# Altium footprint library ae3-wlcsp208.PcbLib: 1 footprints
Each footprint in its own frame and in the unit in brackets; x right, y up, seen from the top. Pads: shape width x height; smd on the part's side, far side on the other; paste and mask are expansions set on the pad; w line width, h text height; cw(c..) or ccw(c..) is an arc to the next point about the centre after c.
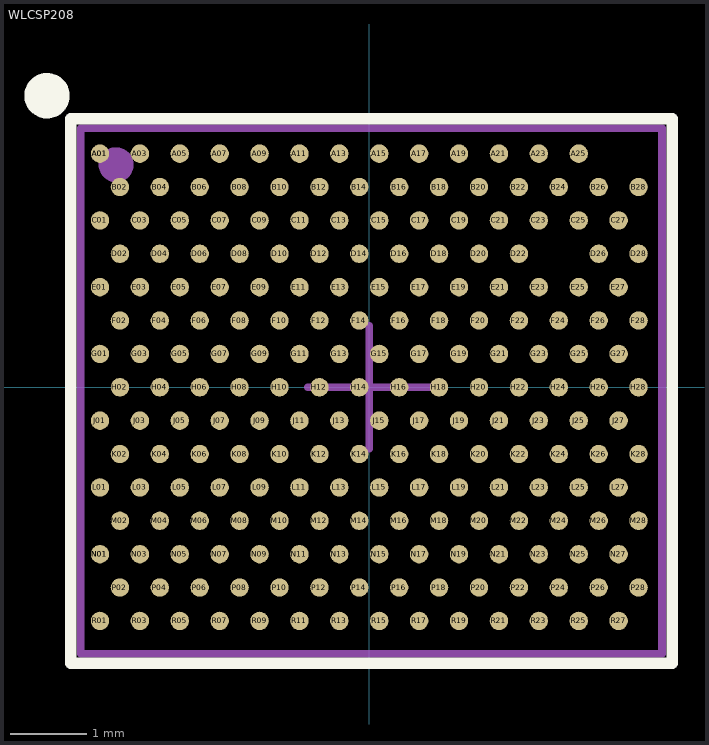
[diagram p0: the footprint, top view; thin cyan lines are the x and y axes]

## WLCSP208 [mm]
pads (210):
  round 0.24 smd mask+0.05: A01(-3.51,3.045) A01(-3.51,3.045) A03(-2.99,3.045) A05(-2.47,3.045) A07(-1.95,3.045) A09(-1.43,3.045) A11(-0.91,3.045) A13(-0.39,3.045) A15(0.13,3.045) A17(0.65,3.045) A19(1.17,3.045) A21(1.69,3.045) A23(2.21,3.045) A25(2.73,3.045) B02(-3.25,2.61) B04(-2.73,2.61) B06(-2.21,2.61) B08(-1.69,2.61) B10(-1.17,2.61) B12(-0.65,2.61) B14(-0.13,2.61) B16(0.39,2.61) B18(0.91,2.61) B20(1.43,2.61) B22(1.95,2.61) B24(2.47,2.61) B26(2.99,2.61) B28(3.51,2.61) C01(-3.51,2.175) C03(-2.99,2.175) C05(-2.47,2.175) C07(-1.95,2.175) C09(-1.43,2.175) C11(-0.91,2.175) C13(-0.39,2.175) C15(0.13,2.175) C17(0.65,2.175) C19(1.17,2.175) C21(1.69,2.175) C23(2.21,2.175) C25(2.73,2.175) C27(3.25,2.175) D02(-3.25,1.74) D04(-2.73,1.74) D06(-2.21,1.74) D08(-1.69,1.74) D10(-1.17,1.74) D12(-0.65,1.74) D14(-0.13,1.74) D16(0.39,1.74) D18(0.91,1.74) D20(1.43,1.74) D22(1.95,1.74) D26(2.99,1.74) D28(3.51,1.74) E01(-3.51,1.305) E03(-2.99,1.305) E05(-2.47,1.305) E07(-1.95,1.305) E09(-1.43,1.305) E11(-0.91,1.305) E13(-0.39,1.305) E15(0.13,1.305) E17(0.65,1.305) E19(1.17,1.305) E21(1.69,1.305) E23(2.21,1.305) E25(2.73,1.305) E27(3.25,1.305) F02(-3.25,0.87) F04(-2.73,0.87) F06(-2.21,0.87) F08(-1.69,0.87) F10(-1.17,0.87) F12(-0.65,0.87) F14(-0.13,0.87) F16(0.39,0.87) F18(0.91,0.87) F20(1.43,0.87) F22(1.95,0.87) F24(2.47,0.87) F26(2.99,0.87) F28(3.51,0.87) G01(-3.51,0.435) G03(-2.99,0.435) G05(-2.47,0.435) G07(-1.95,0.435) G09(-1.43,0.435) G11(-0.91,0.435) G13(-0.39,0.435) G15(0.13,0.435) G17(0.65,0.435) G19(1.17,0.435) G21(1.69,0.435) G23(2.21,0.435) G25(2.73,0.435) G27(3.25,0.435) H02(-3.25,0) H04(-2.73,0) H06(-2.21,0) H08(-1.69,0) H10(-1.17,0) H12(-0.65,0) H14(-0.13,0) H16(0.39,0) H18(0.91,0) H20(1.43,0) H22(1.95,0) H24(2.47,0) H26(2.99,0) H28(3.51,0) J01(-3.51,-0.435) J03(-2.99,-0.435) J05(-2.47,-0.435) J07(-1.95,-0.435) J09(-1.43,-0.435) J11(-0.91,-0.435) J13(-0.39,-0.435) J15(0.13,-0.435) J17(0.65,-0.435) J19(1.17,-0.435) J21(1.69,-0.435) J23(2.21,-0.435) J25(2.73,-0.435) J27(3.25,-0.435) K02(-3.25,-0.87) K04(-2.73,-0.87) K06(-2.21,-0.87) K08(-1.69,-0.87) K10(-1.17,-0.87) K12(-0.65,-0.87) K14(-0.13,-0.87) K16(0.39,-0.87) K18(0.91,-0.87) K20(1.43,-0.87) K22(1.95,-0.87) K24(2.47,-0.87) K26(2.99,-0.87) K28(3.51,-0.87) L01(-3.51,-1.305) L03(-2.99,-1.305) L05(-2.47,-1.305) L07(-1.95,-1.305) L09(-1.43,-1.305) L11(-0.91,-1.305) L13(-0.39,-1.305) L15(0.13,-1.305) L17(0.65,-1.305) L19(1.17,-1.305) L21(1.69,-1.305) L23(2.21,-1.305) L25(2.73,-1.305) L27(3.25,-1.305) M02(-3.25,-1.74) M04(-2.73,-1.74) M06(-2.21,-1.74) M08(-1.69,-1.74) M10(-1.17,-1.74) M12(-0.65,-1.74) M14(-0.13,-1.74) M16(0.39,-1.74) M18(0.91,-1.74) M20(1.43,-1.74) M22(1.95,-1.74) M24(2.47,-1.74) M26(2.99,-1.74) M28(3.51,-1.74) N01(-3.51,-2.175) N01(-3.51,-2.175) N03(-2.99,-2.175) N05(-2.47,-2.175) N07(-1.95,-2.175) N09(-1.43,-2.175) N11(-0.91,-2.175) N13(-0.39,-2.175) N15(0.13,-2.175) N17(0.65,-2.175) N19(1.17,-2.175) N21(1.69,-2.175) N23(2.21,-2.175) N25(2.73,-2.175) N27(3.25,-2.175) P02(-3.25,-2.61) P04(-2.73,-2.61) P06(-2.21,-2.61) P08(-1.69,-2.61) P10(-1.17,-2.61) P12(-0.65,-2.61) P14(-0.13,-2.61) P16(0.39,-2.61) P18(0.91,-2.61) P20(1.43,-2.61) P22(1.95,-2.61) P24(2.47,-2.61) P26(2.99,-2.61) P28(3.51,-2.61) R01(-3.51,-3.045) R03(-2.99,-3.045) R05(-2.47,-3.045) R07(-1.95,-3.045) R09(-1.43,-3.045) R11(-0.91,-3.045) R13(-0.39,-3.045) R15(0.13,-3.045) R17(0.65,-3.045) R19(1.17,-3.045) R21(1.69,-3.045) R23(2.21,-3.045) R25(2.73,-3.045) R27(3.25,-3.045)
Top Overlay:
  circle w0.3: c-4.2,3.8 r0.146
  lines w0.15: -3.889,-3.6 -3.889,3.5 3.948,3.5 3.948,-3.6 -3.889,-3.6
3D Body:
  circle w0.254: c-3.3,2.9 r0.1
  lines w0.1: -0.8,0 0,0 ; 0,-0.8 0,0 ; 0,0.8 0,0 ; 0.8,0 0,0 ; -3.759,-3.475 -3.759,3.375 3.816,3.375 3.816,-3.475 -3.759,-3.475
  text ".designator" at -3.2,-3.133 h0.5
3D body: height 0.5, standoff 0, extent -3.759,-3.475 3.8,3.375